# Altium footprint library PTS830GM140 SMTR LFS - Pushbutton.PcbLib: 1 footprints
Each footprint in its own frame and in the unit in brackets; x right, y up, seen from the top. Pads: shape width x height; smd on the part's side, far side on the other; paste and mask are expansions set on the pad; w line width, h text height; cw(c..) or ccw(c..) is an arc to the next point about the centre after c.
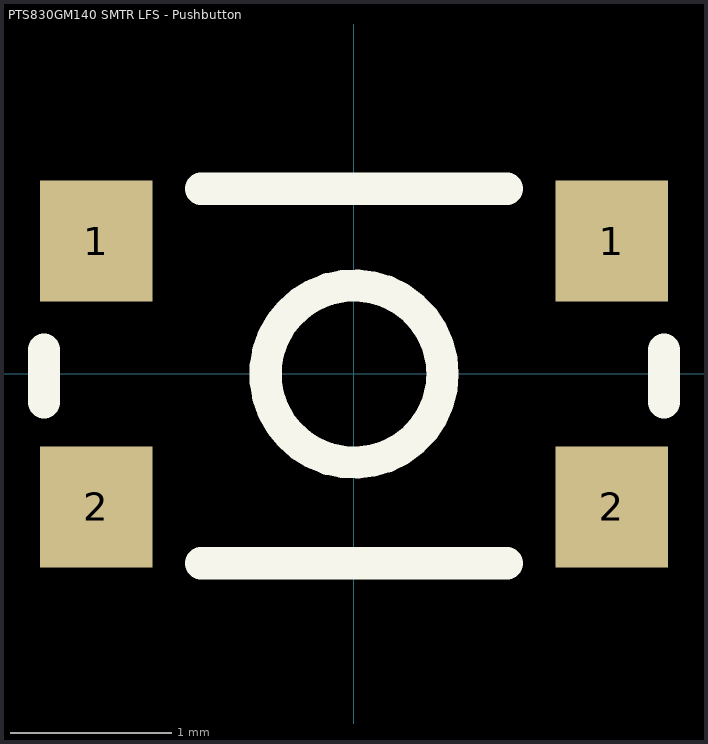
[diagram p0: the footprint, top view; thin cyan lines are the x and y axes]

## PTS830GM140 SMTR LFS - Pushbutton [mm] "Low profile pushbutton"
height 0.036
pads (4):
  rect 0.7x0.75 smd: 1(-1.6,0.825) 1(1.6,0.825) 2(-1.6,-0.825) 2(1.6,-0.825)
Top Overlay:
  circle w0.2: c0,0 r0.55
  lines w0.2: -1.925,-0.175 -1.925,0.15 ; -0.95,-1.175 0.95,-1.175 ; -0.95,1.15 0.95,1.15 ; 1.925,-0.175 1.925,0.15
3D body "PTS830GM140 SMTR LFS - Pushbutton v2.step": height 1.4, standoff 0, extent -1.75,-1.3 1.75,1.3